# Altium schematic symbol library PS7141L-2B-A.SchLib: 1 symbol
Pins are listed as number, name and electrical type; pins without a type are passive.

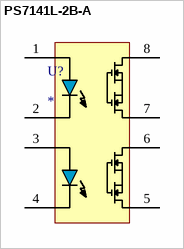
[diagram p0: symbol PS7141L-2B-A]

## PS7141L-2B-A
designator U?
SSR OCMOS FET 150MA NC 8-SMD
footprint 8-SMDGW
pins: 1 1A, 2 1C, 3 2A, 4 2C, 5 *, 6 *, 7 *, 8 *